# EAGLE library part FPC-10WAY (library pimoroni-fpc)
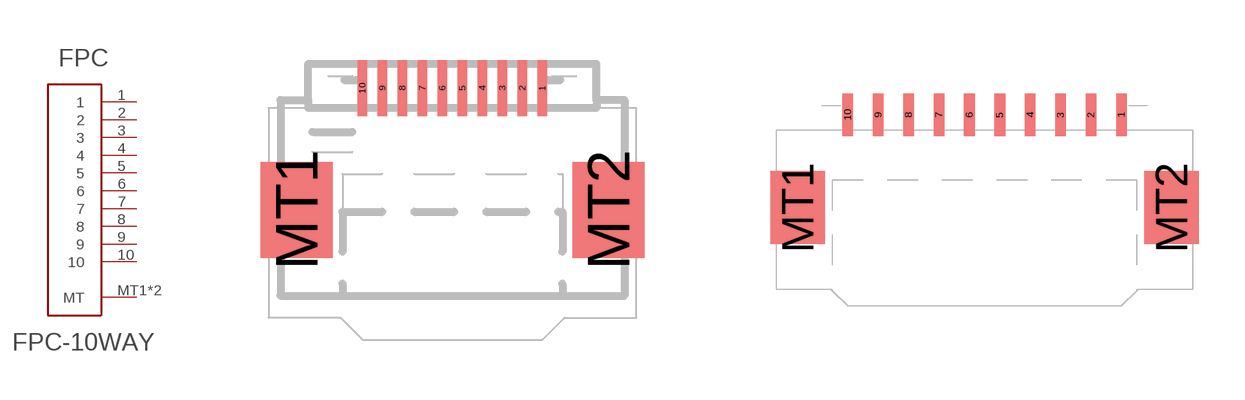
[diagram p5: symbol with the pads of FPC-0.5MM-10WAY; footprints FPC-0.5MM-10WAY, FPC-1.0MM-10WAY]

Designator prefix FPC

## FPC-10WAY0.5  [FPC-0.5MM-10WAY]
1  1
2  2
3  3
4  4
5  5
6  6
7  7
8  8
9  9
10  10
MT1  MT
MT2  MT

## FPC-10WAY1.0  [FPC-1.0MM-10WAY]
Pads as for FPC-0.5MM-10WAY

## Footprint FPC-0.5MM-10WAY (pad centres in mm)
smd 0.24 x 1.4: 1 2.25,0.7; 2 1.75,0.7; 3 1.25,0.7; 4 0.75,0.7; 5 0.25,0.7; 6 -0.25,0.7; 7 -0.75,0.7; 8 -1.25,0.7; 9 -1.75,0.7; 10 -2.25,0.7
smd 1.8 x 2.4: MT1 -3.9,-2.35; MT2 3.9,-2.35

## Footprint FPC-1.0MM-10WAY (pad centres in mm)
smd 0.35 x 1.4: 1 4.5,0.7; 2 3.5,0.7; 3 2.5,0.7; 4 1.5,0.7; 5 0.5,0.7; 6 -0.5,0.7; 7 -1.5,0.7; 8 -2.5,0.7; 9 -3.5,0.7; 10 -4.5,0.7
smd 1.8 x 2.4: MT1 -6.15,-2.35; MT2 6.15,-2.35